# Altium footprint library SUPER28335.PcbLib: 44 footprints (part 1 of 3)
Each footprint in its own frame and in the unit in brackets; x right, y up, seen from the top. Pads: shape width x height; smd on the part's side, far side on the other; paste and mask are expansions set on the pad; w line width, h text height; cw(c..) or ccw(c..) is an arc to the next point about the centre after c.
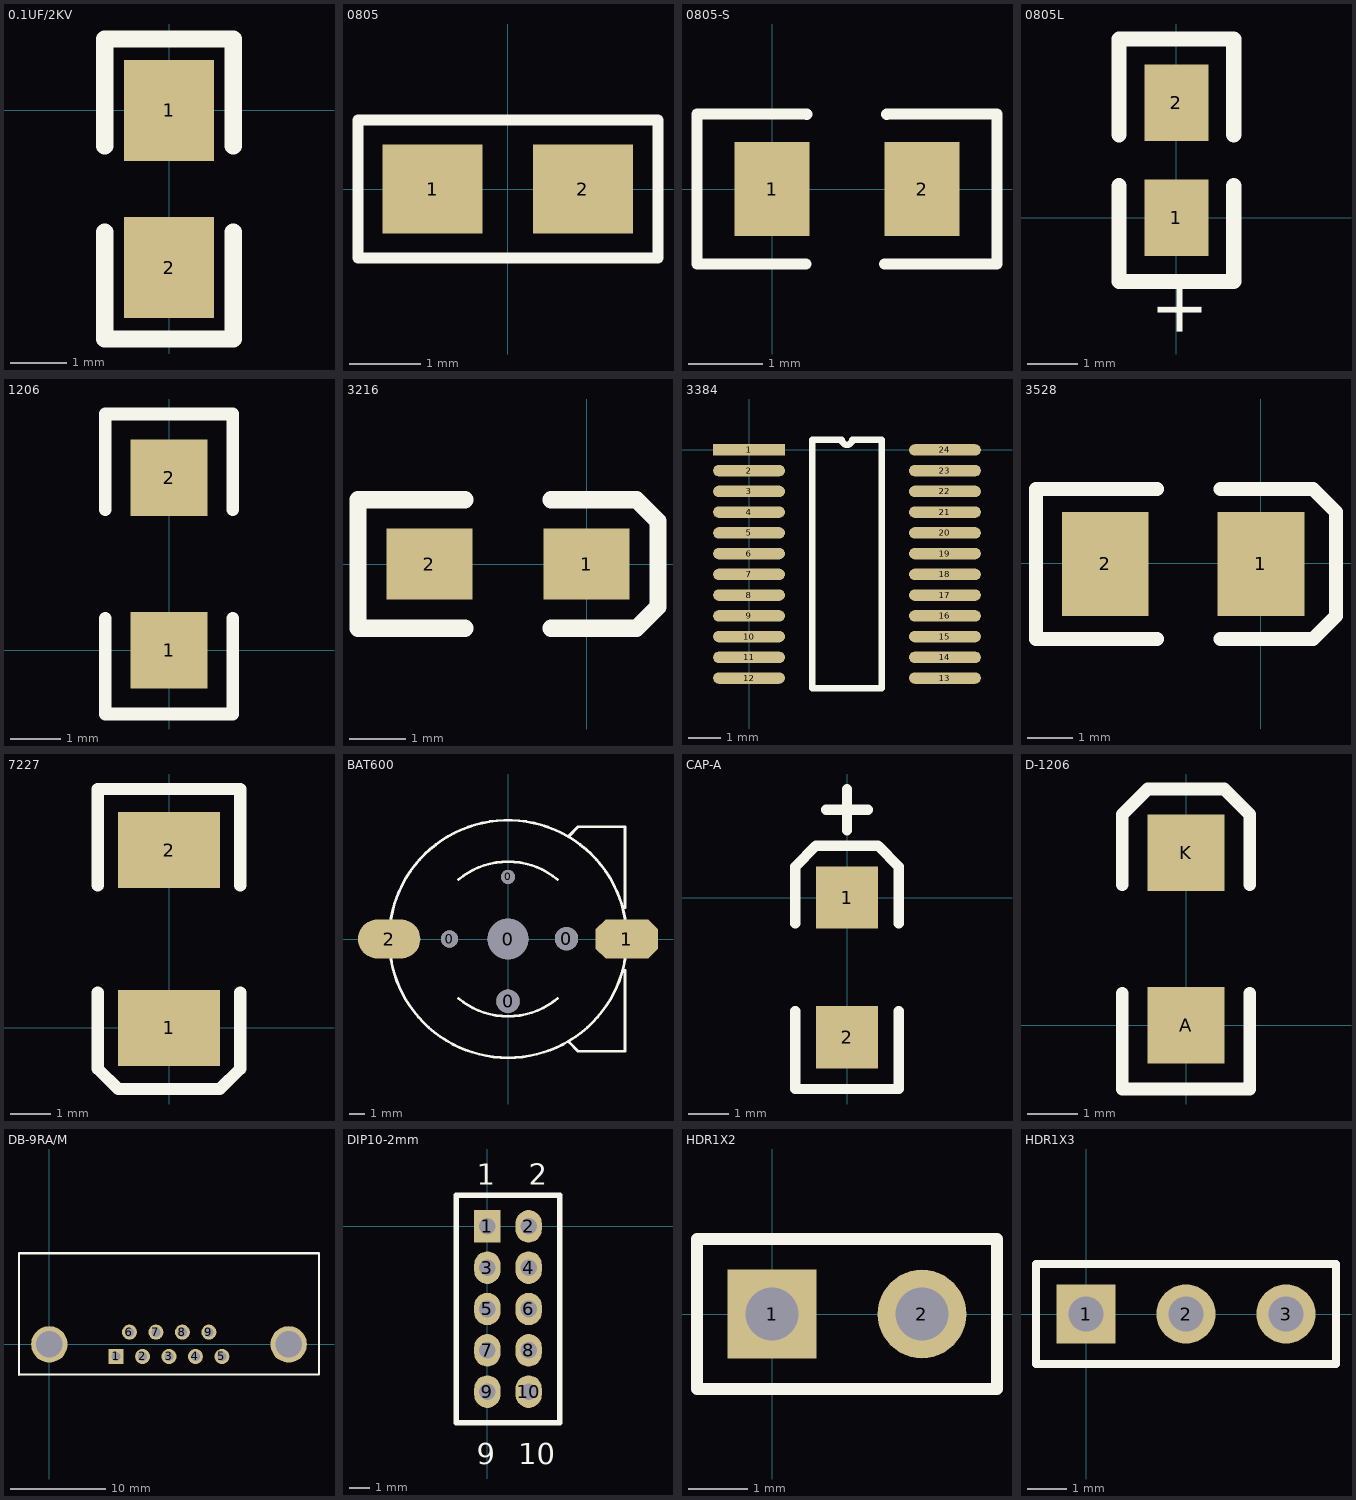
[diagram p0: the footprints below, top view; thin cyan lines are the x and y axes]

## 0.1UF/2KV [mm]
height 1.7
pads (2):
  rect 1.6x1.8 smd: 1(0,0) 2(0,-2.794)
Top Overlay:
  lines w0.305: -1.143,-2.159 -1.143,-4.064 1.143,-4.064 1.143,-2.159 ; -1.143,-0.635 -1.143,1.27 1.143,1.27 1.143,-0.635

## 0805 [mm]
height 1.6
pads (2):
  rect 1.4x1.25 smd: 1(-1.05,0) 2(1.05,0)
Top Overlay:
  lines w0.152: -2.091,-0.965 2.1,-0.965 2.1,0.965 -2.091,0.965 -2.091,-0.965

## 0805-S [mil]
pads (2):
  rect 40x50 smd: 1(0,0) 2(80,0)
Top Overlay:
  lines w6: 18,-40 -40,-40 -40,40 18.5,39.9 ; 60.1,-40 120,-40 120,40 61.2,39.9

## 0805L [mil]
height 66.93
pads (2):
  rect 50x60 smd: 1(0,0) 2(0,90)
Top Overlay:
  lines w12: -45,25 -45,-50 45,-50 45,25 ; -45,65 -45,140 45,140 45,65
  text "+" at 20,-95 h40

## 1206 [mil]
height 47.24
pads (2):
  rect 60x60 smd mask+4: 1(0,0) 2(0,135)
Top Overlay:
  lines w10: -50,25 -50,-50 50,-50 50,25 ; -50,110 -50,185 50,185 50,110

## 3216 [mil]
pads (2):
  rect 60x50 smd: 1(0,0) 2(-110,0)
Top Overlay:
  lines w12: -85,-45 -160,-45 -160,45 -85,45 ; -25,-45 35,-45 50,-30 50,30 35,45 -25,45

## 3384 [mm]
pads (24):
  rect 2.2x0.35 smd: 1(0,0)
  oval 2.2x0.35 smd: 2(0,-0.635) 3(0,-1.27) 4(0,-1.905) 5(0,-2.54) 6(0,-3.175) 7(0,-3.81) 8(0,-4.445) 9(0,-5.08) 10(0,-5.715) 11(0,-6.35) 12(0,-6.985) 13(6,-6.985) 14(6,-6.35) 15(6,-5.715) 16(6,-5.08) 17(6,-4.445) 18(6,-3.81) 19(6,-3.175) 20(6,-2.54) 21(6,-1.905) 22(6,-1.27) 23(6,-0.635) 24(6,0)
Top Overlay:
  lines w0.2: 1.935,-7.302 4.065,-7.302 4.065,0.318 3.159,0.318 cw(c3,0.318) 2.841,0.318 1.935,0.318 1.935,-7.302

## 3528 [mil]
height 66.93
pads (2):
  rect 75x90 smd: 1(0.04,-0.49) 2(-134.96,-0.49)
Top Overlay:
  lines w12: -89.96,-65.49 -194.96,-65.49 -194.96,64.51 -89.96,64.51 ; -34.96,-65.49 45.04,-65.49 65.04,-45.49 65.04,44.51 45.04,64.51 -34.96,64.51

## 7227 [mil]
pads (2):
  rect 100x75 smd mask+4: 1(0,0) 2(0,175)
Top Overlay:
  lines w12: -70,35 -70,-40 -50,-60 50,-60 70,-40 70,35 ; -70,140 -70,235 70,235 70,140

## BAT600 [mm]
pads (7):
  round 1.1 hole 1.1: 0(-3.75,0.007)
  round 1.5 hole 1.5: 0(0,-3.981) 0(3.75,0.032)
  round 2.6 hole 2.6: 0(0,0.007)
  round 0.9 hole 0.9: 0(0,3.995)
  oct 4x2.5 smd: 1(7.62,0.007)
  oval 4x2.5 smd: 2(-7.62,0.007)
Top Overlay:
  lines w0.178: -7.574,-0.826 ccw(c0,0.007) 0,-7.613 ccw(c0,0.007) 7.574,-0.826 ; -7.574,0.84 cw(c0,0.007) 7.574,0.84 ; -3.172,-3.805 ccw(c0,0.007) 3.169,-3.808 ; -3.172,3.819 cw(c0,0.007) 3.175,3.817 ; 3.9,-6.593 4.5,-7.193 7.5,-7.193 7.5,-1.993 ; 3.925,6.632 4.5,7.207 7.5,7.207 7.5,2.007

## CAP-A [mil]
pads (2):
  rect 60x60 smd mask+4: 1(0,0) 2(0,-135)
Top Overlay:
  lines w10: -50,-110 -50,-185 50,-185 50,-110 ; -50,-25 -50,30 -30,50 30,50 50,30 50,-25 ; -20,85 20,85 ; 0,65 0,105

## D-1206 [mil]
height 66.93
pads (2):
  rect 60x60 smd: A(0,0) K(0,135)
Top Overlay:
  lines w10: -50,25 -50,-50 50,-50 50,25 ; -50,110 -50,165 -30,185 30,185 50,165 50,110

## DB-9RA/M [mil]
pads (11):
  rect 62x62 hole 38: 1(275,-50)
  round 62 hole 38: 2(384,-50) 3(493,-50) 4(602,-50) 5(711,-50) 6(330,50) 7(439,50) 8(548,50) 9(657,50)
  round 150 hole 110: ""(0,0) ""(986,0)
Top Overlay:
  lines w8: -125,-125 1111,-125 1111,375
  lines w10: -125,-125 -125,375 1111,375

## DIP10-2mm [mm]
pads (10):
  rect 1.27x1.57 hole 0.8: 1(0,0)
  oval 1.27x1.57 hole 0.8: 2(2,0) 3(0,-2) 4(2,-2) 5(0,-4) 6(2,-4) 7(0,-6) 8(2,-6) 9(0,-8) 10(2,-8)
Top Overlay:
  lines w0.254: -1.5,-9.5 3.5,-9.5 3.5,1.5 -1.5,1.5 -1.5,-9.5
  text "1" at -0.5,2 h1.02
  text "2" at 2,2 h1.02
  text "9" at -0.5,-11.5 h1.02
  text "10" at 1.5,-11.5 h1.02

## HDR1X2 [mm] "Connector; Header; 2 Position"
pads (2):
  rect 1.5x1.5 hole 0.9: 1(0,0)
  round 1.5 hole 0.9: 2(2.54,0)
Top Overlay:
  lines w0.2: -1.27,-1.27 -1.27,1.27 3.81,1.27 3.81,-1.27 -1.27,-1.27

## HDR1X3 [mm] "Connector; Header; 3 Position"
pads (3):
  rect 1.5x1.5 hole 0.9: 1(0,0)
  round 1.5 hole 0.9: 2(2.54,0) 3(5.08,0)
Top Overlay:
  lines w0.2: -1.27,-1.27 -1.27,1.27 6.35,1.27 6.35,-1.27 -1.27,-1.27